# Altium schematic symbol library C1Q-500.SchLib: 1 symbol
Pins are listed as number, name and electrical type; pins without a type are passive.

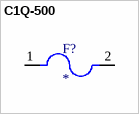
[diagram p0: symbol C1Q-500]

## C1Q-500
designator F?
MP: C1Q-500; MF: {'manufacturer': u'Bel Fuse'}; Price: None; Package: None; Availability: Unavailable; Value: *
footprint FUSC3215X78N
pins: 1, 2